# Altium schematic symbol library Inductors.SchLib: 4 symbols
Pins are listed as number, name and electrical type; pins without a type are passive.

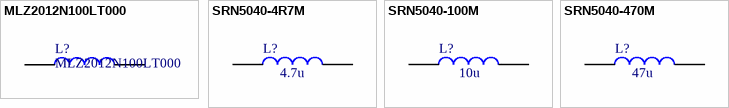
[diagram p0: symbols MLZ2012N100LT000 to SRN5040-470M]

## MLZ2012N100LT000
designator L?
MLZ Series Inductors for Decoupling Circuits Multilayer Ferrite; Manufacturer_Name: TDK; Geometry.Height: 1.45mm; Mouser Part Number: 810-MLZ2012N100LT000; Manufacturer_Part_Number: MLZ2012N100LT000; Datasheet Link: http://www.mouser.com/datasheet/2/400/nductor_commercial_decoupling_mlz2012_en-918301.pdf
footprint 6-0805_N (Chip Resistor, Body 2.0x1.2mm, IPC Medium Density)
pins: 1, 2

## SRN5040-4R7M
designator L?  value 4.7u  (hidden comment: SRN5040-4R7M)
4.7 uH +/-20% 3.3A Idc; Manufacturer_Name: Bourns; Mouser Part Number: 652-SRN5040-4R7M; Mouser Price/Stock: https://www.digikey.co.uk/product-detail/en/bourns-inc/SRN5040-470M/SRN5040-470MTR-ND/4867720; Manufacturer_Part_Number: SRN5040-4R7M; Datasheet Link: http://www.mouser.com/datasheet/2/54/bourns_SRN5040-1159409.pdf; ComponentLink1Description: DS; ComponentLink1URL: https://ru.mouser.com/datasheet/2/54/bourns_SRN5040-1159409.pdf
footprint SRN4050 (SRN5040 Series - Semi-shielded Power Inductors)
pins: 1, 2

## SRN5040-100M
designator L?  value 10u  (hidden comment: SRN5040-100M)
10 uH +/-20% 2.3A Idc; Manufacturer_Name: Bourns; Mouser Part Number: 652-SRN5040-100M; Mouser Price/Stock: https://www.digikey.co.uk/product-detail/en/bourns-inc/SRN5040-470M/SRN5040-470MTR-ND/4867720; Manufacturer_Part_Number: SRN5040-100M; Datasheet Link: http://www.mouser.com/datasheet/2/54/bourns_SRN5040-1159409.pdf; ComponentLink1Description: DS; ComponentLink1URL: https://ru.mouser.com/datasheet/2/54/bourns_SRN5040-1159409.pdf
footprint SRN4050 (SRN5040 Series - Semi-shielded Power Inductors)
pins: 1, 2

## SRN5040-470M
designator L?  value 47u  (hidden comment: SRN5040-470M)
47 uH +/-20% 0.9A Idc; Manufacturer_Name: Bourns; Mouser Part Number: 652-SRN5040-470M; Mouser Price/Stock: https://www.digikey.co.uk/product-detail/en/bourns-inc/SRN5040-470M/SRN5040-470MTR-ND/4867720; Manufacturer_Part_Number: SRN5040-470M; Datasheet Link: http://www.mouser.com/datasheet/2/54/bourns_SRN5040-1159409.pdf; ComponentLink1Description: DS; ComponentLink1URL: https://ru.mouser.com/datasheet/2/54/bourns_SRN5040-1159409.pdf
footprint SRN4050 (SRN5040 Series - Semi-shielded Power Inductors)
pins: 1, 2